# Altium integrated library MAX11100EUB&plus_.IntLib: 2 symbols
Pins are listed as number, name and electrical type; pins without a type are passive.

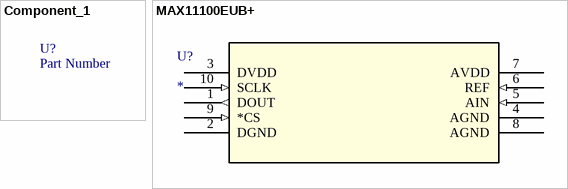
[diagram p0: symbols Component_1 to MAX11100EUB+]

## Component_1
designator U?, comment Part Number
XXX - Description - Package; GRAMS Lib Spec: 2.7

## MAX11100EUB+
designator U?
No Description Available; Mfr_Name: Analog Devices / Maxim Integrated; RefDes: RefDes; Type: Type
footprint 21-0061L_MXM
pins: 1 DOUT (out), 2 DGND (power), 3 DVDD (power), 4 AGND (power), 5 AIN (in), 6 REF (in), 7 AVDD (power), 8 AGND (power), 9 *CS (in), 10 SCLK (in)